# EAGLE library part VAL-U-LOK-20PIN (library ck_custom)
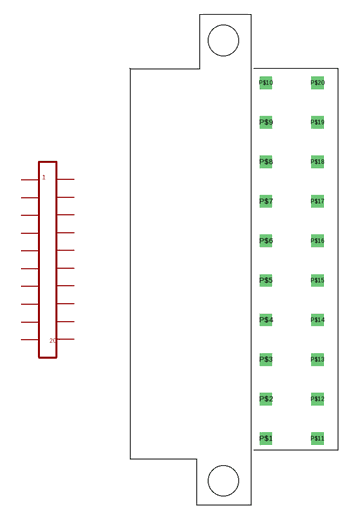
[diagram p1: symbol with the pads of VALULOK-20; footprint VALULOK-20]

Designator prefix -

## VAL-U-LOK-20PIN  [VALULOK-20]
P$1  P$1
P$2  P$2
P$3  P$3
P$4  P$4
P$5  P$5
P$6  P$6
P$7  P$7
P$8  P$8
P$9  P$9
P$10  P$10
P$11  P$11
P$12  P$12
P$13  P$13
P$14  P$14
P$15  P$15
P$16  P$16
P$17  P$17
P$18  P$18
P$19  P$19
P$20  P$20

## Footprint VALULOK-20 (pad centres in mm)
drill 0.8 square: P$1 0,0; P$2 0,4.2; P$3 0,8.4; P$4 0,12.6; P$5 0,16.8; P$6 0,21; P$7 0,25.2; P$8 0,29.4; P$9 0,33.6; P$10 0,37.8; P$11 5.5,0; P$12 5.5,4.2; P$13 5.5,8.4; P$14 5.5,12.6; P$15 5.5,16.8; P$16 5.5,21; P$17 5.5,25.2; P$18 5.5,29.4; P$19 5.5,33.6; P$20 5.5,37.8
hole 3.2 at -4.5,-4.5
hole 3.2 at -4.5,42.3